# Altium footprint library Relay-PVDZ172N.PcbLib: 1 footprints
Each footprint in its own frame and in the unit in brackets; x right, y up, seen from the top. Pads: shape width x height; smd on the part's side, far side on the other; paste and mask are expansions set on the pad; w line width, h text height; cw(c..) or ccw(c..) is an arc to the next point about the centre after c.
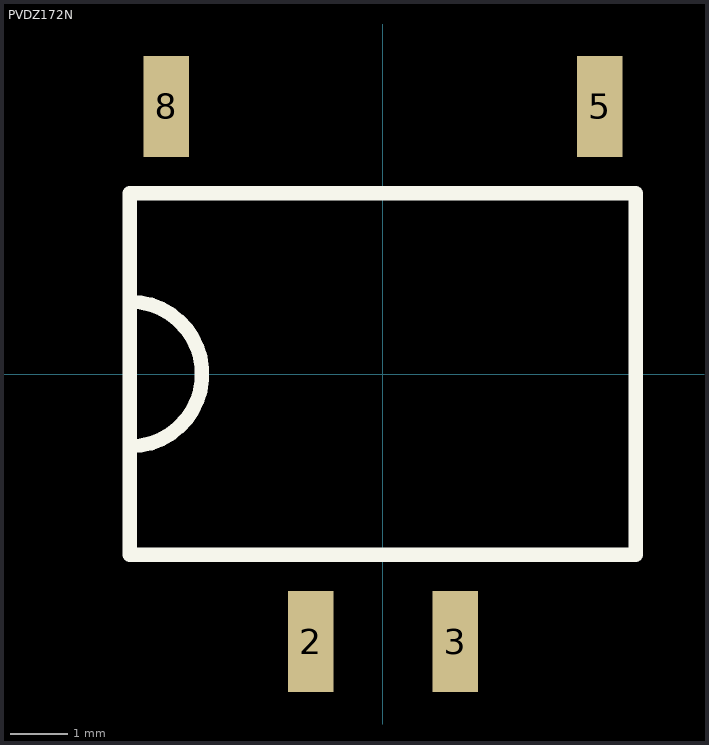
[diagram p0: the footprint, top view; thin cyan lines are the x and y axes]

## PVDZ172N [mm] "SSR SPST 1.5A 0~60 V"
pads (4):
  rect 0.8x1.78 smd: 2(-1.27,-4.7) 3(1.27,-4.7) 5(3.81,4.7) 8(-3.81,4.7)
Top Overlay:
  lines w0.254: -4.445,-1.27 ccw(c-4.445,0) -4.445,1.27 ; -4.445,-3.175 -4.445,3.175 4.445,3.175 4.445,-3.175 -4.445,-3.175
3D body: height 4.2, standoff 0, extent -4.601,-4.9 4.699,4.9